# Altium footprint library E209_Footprints.PcbLib: 40 footprints (part 1 of 3)
Each footprint in its own frame and in the unit in brackets; x right, y up, seen from the top. Pads: shape width x height; smd on the part's side, far side on the other; paste and mask are expansions set on the pad; w line width, h text height; cw(c..) or ccw(c..) is an arc to the next point about the centre after c.
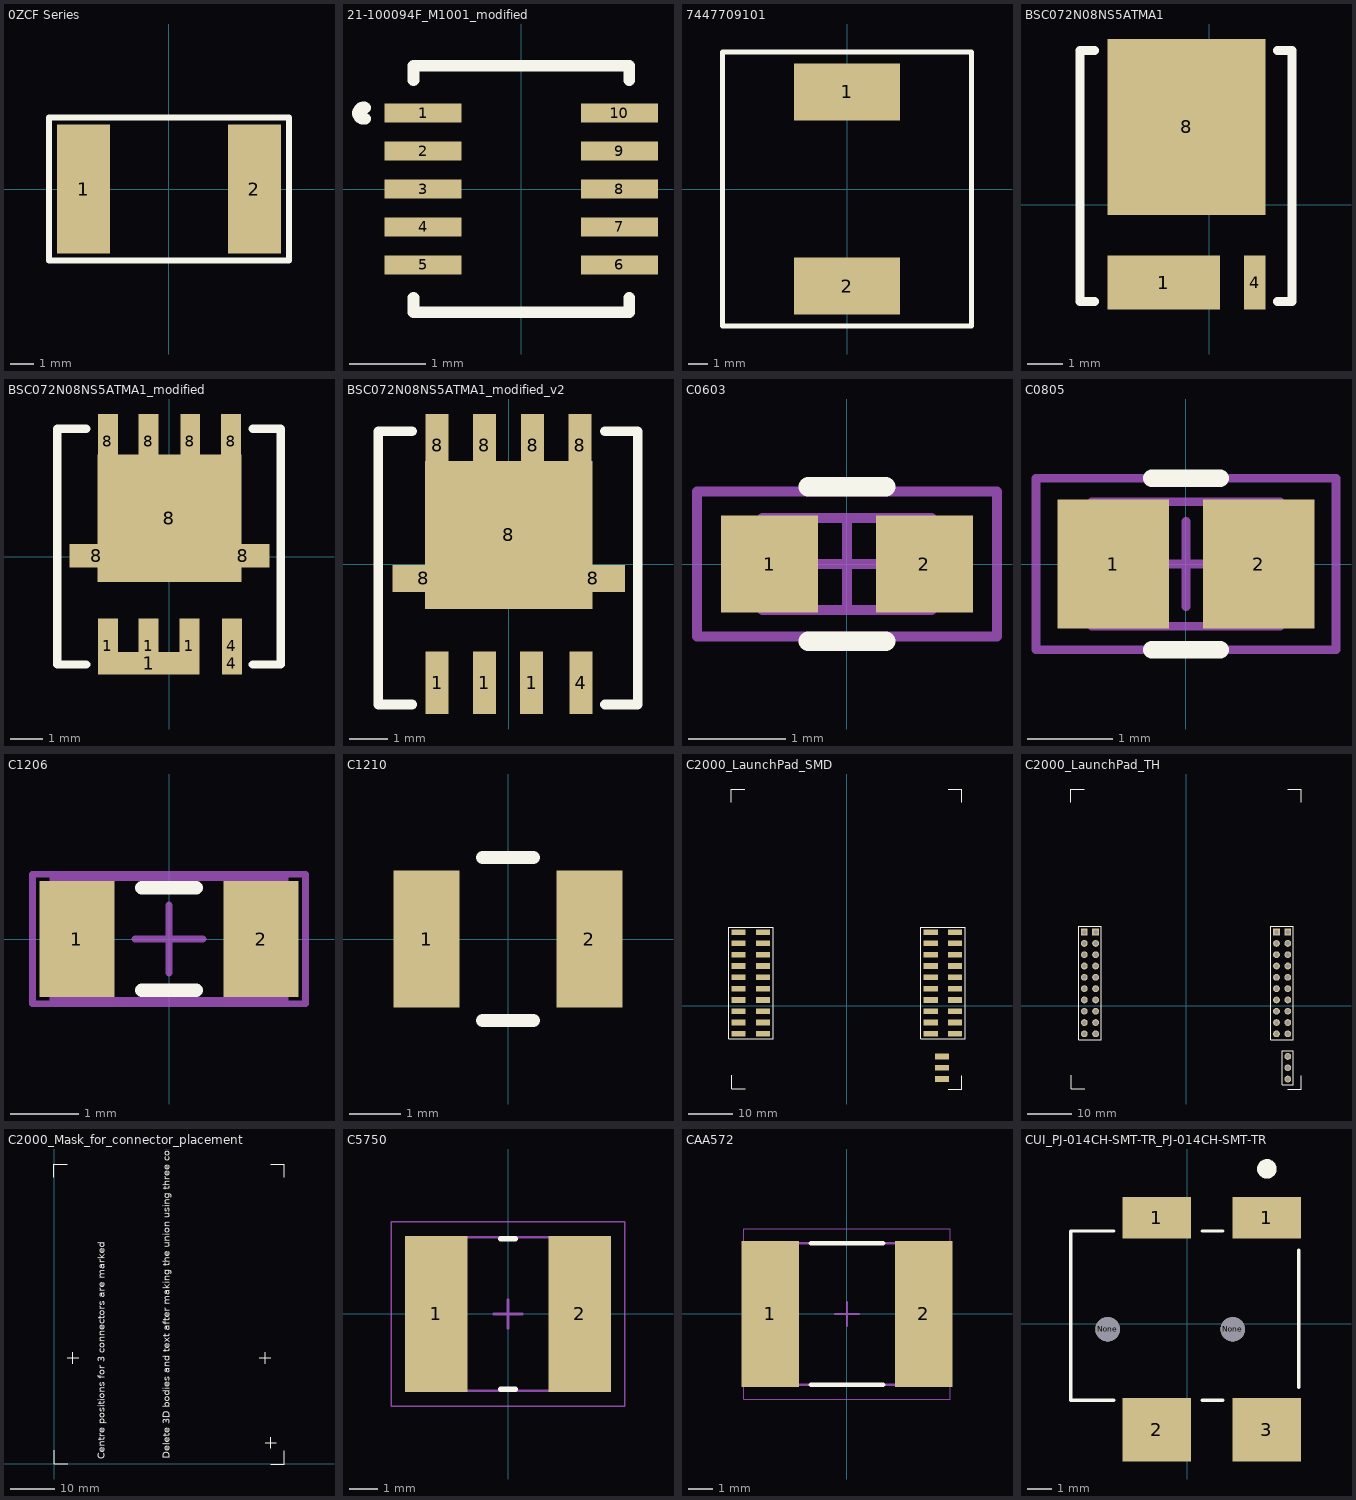
[diagram p0: the footprints below, top view; thin cyan lines are the x and y axes]

## 0ZCF Series [mm] "0ZCF Series SMD Reset Fuse"
pads (2):
  rect 2.3x5.6 smd: 1(-3.7,0) 2(3.7,0)
Top Overlay:
  lines w0.254: -5.2,-3.1 5.2,-3.1 5.2,3.1 -5.2,3.1 -5.2,-3.1
3D body "0ZCF.step": height 1.15, standoff 0, extent -3.988,-2.72 3.988,2.72

## 21-100094F_M1001_modified [mil]
pads (10):
  rect 40x9.84 smd paste+0 mask+0: 1(-51,39.37) 2(-51,19.68) 3(-51,0) 4(-51,-19.68) 5(-51,-39.37) 6(51,-39.37) 7(51,-19.68) 8(51,0) 9(51,19.68) 10(51,39.37)
Top Overlay:
  lines w6: -81.1,36.46 cw(c-81.84,39.37) -81.1,42.28 ; -56,-56.47 -56,-64 56,-64 56,-56.47 ; -56,56.47 -56,64 56,64 56,56.47
3D body "21-100094F_M102A31.step": height 65.12, standoff 0, extent -52,-59.01 52.01,59.02

## 7447709101 [mm] "FIXED IND 100UH 2.5A 110 MOHM"
pads (2):
  rect 5.4x2.9 smd: 1(0,4.95) 2(0,-4.95)
Top Overlay:
  lines w0.254: -6.35,-6.985 -6.35,6.985 6.35,6.985 6.35,-6.985 -6.35,-6.985
3D body "7447709001_Download_STP_WE-PD-1210_rev1.stp": height 9.51, standoff 0.05, extent -6,-6 6,6

## BSC072N08NS5ATMA1 [mm]
pads (3):
  rect 3.14x1.5 smd: 1(-1.27,-2.17)
  rect 0.6x1.5 smd: 4(1.27,-2.17)
  rect 4.41x4.9 smd: 8(-0.635,2.17)
Top Overlay:
  lines w0.254: -3.2,-2.7 -3.6,-2.7 -3.6,4.3 -3.2,4.3 ; 1.9,-2.7 2.3,-2.7 2.3,4.3 1.9,4.3
3D body "Infineon-STP_PG-TDSON-8-34-P-v01_00-EN.stp": height 1.01, standoff 0, extent -3.34,-2.37 2.07,4.07

## BSC072N08NS5ATMA1_modified [mil]
pads (13):
  rect 23.94x65 smd: 1(-74,-106.87) 1(-25,-106.87) 1(24,-106.87) 4(75,-106.87) 8(-74,139.13) 8(-25,139.13) 8(25,139.13) 8(74,139.13)
  rect 122.05x27.56 smd: 1(-25,-128.13)
  rect 23.94x27.56 smd: 4(75,-128.13)
  rect 65x27.87 smd: 8(-88,1.13) 8(88,1.13)
  rect 173.62x153.54 smd: 8(0,46.4)
Top Overlay:
  lines w10: -100,-129.59 -135,-129.59 -135,153.88 -100,153.88 ; 100,-129.59 122.05,-129.59 133.86,-129.59 133.86,153.88 100,153.88
3D body "Infineon-STP_PG-TDSON-8-34-P-v01_00-EN.stp": height 39.76, standoff 0, extent -106.49,-110.68 106.5,142.86

## BSC072N08NS5ATMA1_modified_v2 [mil]
pads (11):
  rect 23.94x65 smd: 1(-74,-123) 1(-25,-123) 1(24,-123) 4(75,-123) 8(-74,123) 8(-25,123) 8(25,123) 8(74,123)
  rect 65x27.87 smd: 8(-88,-15) 8(88,-15)
  rect 173.62x153.54 smd: 8(0,30.26)
Top Overlay:
  lines w10: -100,-145.72 -135,-145.72 -135,137.74 -100,137.74 ; 100,-145.72 122.05,-145.72 133.86,-145.72 133.86,137.74 100,137.74
3D body "Infineon-STP_PG-TDSON-8-34-P-v01_00-EN.stp": height 39.76, standoff 0, extent -106.49,-126.82 106.5,126.73

## C0603 [mm]
pads (2):
  rect 1x1 smd: 1(-0.8,0) 2(0.8,0)
Top Overlay:
  lines w0.2: -0.4,-0.8 0.4,-0.8 ; -0.4,0.8 0.4,0.8
Mechanical 13:
  lines w0.1: -0.875,-0.475 0.875,-0.475 0.875,0.475 -0.875,0.475 -0.875,-0.475
Mechanical 15:
  lines w0.1: -0.475,0 0.475,0 ; 0,-0.475 0,0.475 ; -1.55,-0.75 1.55,-0.75 1.55,0.75 -1.55,0.75 -1.55,-0.75
3D body: height 0.85, standoff 0, extent -0.875,-0.475 0.875,0.475

## C0805 [mm]
pads (2):
  rect 1.3x1.5 smd: 1(-0.85,0) 2(0.85,0)
Top Overlay:
  lines w0.2: -0.4,-1 0.4,-1 ; -0.4,1 0.4,1
Mechanical 13:
  lines w0.1: -1.1,-0.725 -1.1,0.725 1.1,0.725 1.1,-0.725 -1.1,-0.725
Mechanical 15:
  lines w0.1: -0.5,0 0.5,0 ; 0,-0.5 0,0.5 ; -1.75,-1 -1.75,1 1.75,1 1.75,-1 -1.75,-1
3D body "cap 0805.STEP": height 0.65, standoff 0, extent -1.027,-0.625 1.005,0.645

## C1206 [mm] "Chip Capacitor, Body 3.2x1.6mm, IPC High Density"
height 1.3
pads (2):
  rect 1.1x1.7 smd: 1(-1.35,0) 2(1.35,0)
Top Overlay:
  lines w0.2: -0.4,-0.75 0.4,-0.75 ; -0.4,0.75 0.4,0.75
Mechanical 13:
  lines w0.1: -1.7,-0.9 1.7,-0.9 1.7,0.9 -1.7,0.9 -1.7,-0.9
Mechanical 15:
  lines w0.1: -0.5,0 0.5,0 ; 0,-0.5 0,0.5 ; -2,-0.95 2,-0.95 2,0.95 -2,0.95 -2,-0.95
3D body "C1206_150.step": height 1.5, standoff 0, extent -1.6,-0.8 1.6,0.8

## C1210 [mm]
pads (2):
  rect 1.3x2.7 smd: 1(-1.6,0) 2(1.6,0)
Top Overlay:
  lines w0.254: -0.5,-1.6 0.5,-1.6 ; -0.5,1.6 0.5,1.6
3D body "STL@%STL@%STL@%CAP_3225.stp": height 1.24, standoff 0, extent -1.803,-1.397 1.803,1.397

## C2000_LaunchPad_SMD [mm]
pads (43):
  rect 3.18x1.27 smd: 1(-24.32,16.51) 2(-24.32,13.97) 3(-24.32,11.43) 4(-24.32,8.89) 5(-24.32,6.35) 6(-24.32,3.81) 7(-24.32,1.27) 8(-24.32,-1.27) 9(-24.32,-3.81) 10(-24.32,-6.35) 11(-18.86,16.51) 12(-18.86,13.97) 13(-18.86,11.43) 14(-18.86,8.89) 15(-18.86,6.35) 16(-18.86,3.81) 17(-18.86,1.27) 18(-18.86,-1.27) 19(-18.86,-3.81) 20(-18.86,-6.35) 21(18.86,16.51) 22(18.86,13.97) 23(18.86,11.43) 24(18.86,8.89) 25(18.86,6.35) 26(18.86,3.81) 27(18.86,1.27) 28(18.86,-1.27) 29(18.86,-3.81) 30(18.86,-6.35) 31(24.32,16.51) 32(24.32,13.97) 33(24.32,11.43) 34(24.32,8.89) 35(24.32,6.35) 36(24.32,3.81) 37(24.32,1.27) 38(24.32,-1.27) 39(24.32,-3.81) 40(24.32,-6.35) 41(21.4,-11.43) 42(21.4,-13.97) 43(21.4,-16.51)
Top Overlay:
  lines w0.254: -25.923,45.66 -25.923,48.66 -22.923,48.66 ; -25.823,-15.64 -25.823,-18.64 -22.823,-18.64 ; 22.777,-18.74 25.777,-18.74 25.777,-15.74 ; 22.777,48.66 25.777,48.66 25.777,45.66 ; -26.523,-7.44 -16.523,-7.44 -16.523,17.56 -26.523,17.56 -26.523,-7.44 ; 16.577,-7.44 26.577,-7.44 26.577,17.56 16.577,17.56 16.577,-7.44
3D body: height 10, standoff 5, extent -25.463,-18.288 25.337,48.26

## C2000_LaunchPad_TH [mil]
pads (43):
  rect 60x60 hole 39.37: 1(-900,650) 11(-800,650) 21(800,650) 31(900,650)
  round 60 hole 39.37: 2(-900,550) 3(-900,450) 4(-900,350) 5(-900,250) 6(-900,150) 7(-900,50) 8(-900,-50) 9(-900,-150) 10(-900,-250) 12(-800,550) 13(-800,450) 14(-800,350) 15(-800,250) 16(-800,150) 17(-800,50) 18(-800,-50) 19(-800,-150) 20(-800,-250) 22(800,550) 23(800,450) 24(800,350) 25(800,250) 26(800,150) 27(800,50) 28(800,-50) 29(800,-150) 30(800,-250) 32(900,550) 33(900,450) 34(900,350) 35(900,250) 36(900,150) 37(900,50) 38(900,-50) 39(900,-150) 40(900,-250) 41(900,-450) 42(900,-550) 43(900,-650)
Top Overlay:
  lines w10: -1018.11,1797.64 -1018.11,1915.75 -900,1915.75 ; -1014.17,-615.75 -1014.17,-733.86 -896.06,-733.86 ; 899.21,-737.8 1017.32,-737.8 1017.32,-619.69 ; 899.21,1915.75 1017.32,1915.75 1017.32,1797.64 ; -950,-300 -750,-300 -750,700 -950,700 -950,-300 ; 750,-300 750,700 950,700 950,-300 750,-300 ; 850,-700 950,-700 950,-400 850,-400 850,-700
3D body: height 393.7, standoff 196.85, extent -1000,-720 1000,1900

## C2000_Mask_for_connector_placement [mil]
Top Overlay:
  lines w10: -3.94,2531.5 -3.94,2649.61 114.17,2649.61 ; 0,118.11 0,0 118.11,0 ; 114.17,933.86 214.17,933.86 ; 164.17,883.86 164.17,983.86 ; 1814.17,933.86 1914.17,933.86 ; 1864.17,183.86 1964.17,183.86 ; 1864.17,883.86 1864.17,983.86 ; 1913.39,-3.94 2031.5,-3.94 2031.5,114.17 ; 1913.39,2649.61 2031.5,2649.61 2031.5,2531.5 ; 1914.17,133.86 1914.17,233.86
  text "Delete 3D bodies and text after making the union using three connectors" at 1021,41 h60
  text "Centre positions for 3 connectors are marked" at 445,37 h60
3D body "Header - SMD - Vertical - Dual Row - 20.stp": height 382, standoff 0, extent 1717.17,434 2014.17,1434
3D body "Header - SMD - Vertical - Dual Row - 20.stp": height 382, standoff 0, extent 17.17,434 314.17,1434
3D body "TSM-103-01-L-SV.stp": height 379, standoff -1, extent 1803.17,34 2011.17,334
3D body: height 393.7, standoff 196.85, extent 14.18,13.86 2014.18,2633.86

## C5750 [mm] "C5750 footprint"
height 3.2
pads (2):
  rect 2.2x5.5 smd: 1(-2.525,0) 2(2.525,0)
Top Overlay:
  lines w0.2: -0.25,-2.65 0.25,-2.65 ; -0.25,2.65 0.25,2.65
Mechanical 13:
  lines w0.1: -3.05,-2.7 3.05,-2.7 3.05,2.7 -3.05,2.7 -3.05,-2.7
Mechanical 15:
  lines w0.05: -4.1,-3.25 4.1,-3.25 4.1,3.25 -4.1,3.25 -4.1,-3.25
  lines w0.1: -0.5,0 0.5,0 ; 0,-0.5 0,0.5
3D body: height 3.2, standoff 0, extent 1.55,-2.7 3.05,2.7
3D body: height 3.2, standoff 0, extent -3.05,-2.7 -1.55,2.7
3D body: height 3.2, standoff 0, extent -1.55,-2.7 1.55,2.7

## CAA572 [mm] "Chip Capacitor, 2-Leads, Body 6.25x5.75mm, IPC Low Density"
height 6.7
pads (2):
  rect 2.4x6.1 smd: 1(-3.2,0) 2(3.2,0)
Top Overlay:
  lines w0.2: -1.5,-2.95 1.5,-2.95 ; -1.5,2.95 1.5,2.95
Mechanical 13:
  lines w0.1: -3.2,-2.95 3.2,-2.95 3.2,2.95 -3.2,2.95 -3.2,-2.95
Mechanical 15:
  lines w0.05: -4.3,-3.55 4.3,-3.55 4.3,3.55 -4.3,3.55 -4.3,-3.55
  lines w0.1: -0.5,0 0.5,0 ; 0,-0.5 0,0.5
3D body: height 6.7, standoff 0, extent 1.95,-2.95 3.2,2.95
3D body: height 6.7, standoff 0, extent -3.2,-2.95 -1.95,2.95
3D body: height 6.7, standoff 0, extent -1.95,-2.95 1.95,2.95

## CUI_PJ-014CH-SMT-TR_PJ-014CH-SMT-TR [mm]
pads (6):
  rect 2.8x1.7 smd: 1(-1.25,4.325) 1(3.25,4.325)
  rect 2.8x2.6 smd: 2(-1.25,-4.325) 3(3.25,-4.325)
  round 1 hole 1 unplated: None(-3.25,-0.225) None(1.853,-0.225)
Top Overlay:
  circle w0.4: c3.25,6.315 r0.2
  lines w0.127: -3,-3.125 -4.75,-3.125 -4.75,3.775 -3,3.775 ; 0.6,-3.125 1.45,-3.125 ; 0.6,3.775 1.45,3.775 ; 4.55,-2.6 4.55,3
3D body "CUI_DEVICES_PJ-014CH-SMT-TR.step": height 5.2, standoff -0.8, extent -4.7,-5 4.6,4.6